# EAGLE library part W25Q16 (library agsys-valvecontrol)
W25Q16 SPI Flash 16Mbit
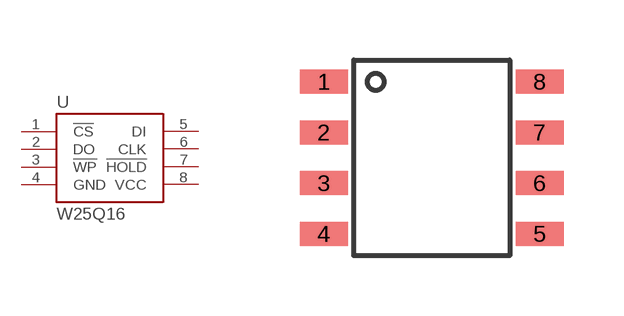
[diagram p9: symbol with the pads of SOIC-8; footprint SOIC-8]

Designator prefix U

## W25Q16  [SOIC-8]
1  !CS  in
2  DO  out
3  !WP  in
4  GND  pwr
5  DI  in
6  CLK  in
7  !HOLD  in
8  VCC  pwr

## Footprint SOIC-8 (pad centres in mm)
SOIC-8 - SN65HVD230, MB85RS1MT, W25Q16
smd 1.2 x 0.6: 1 -2.7,1.905; 2 -2.7,0.635; 3 -2.7,-0.635; 4 -2.7,-1.905; 5 2.7,-1.905; 6 2.7,-0.635; 7 2.7,0.635; 8 2.7,1.905